# Altium schematic symbol library Conn_Molex_0482580002_eec.SchLib: 1 symbol
Pins are listed as number, name and electrical type; pins without a type are passive.

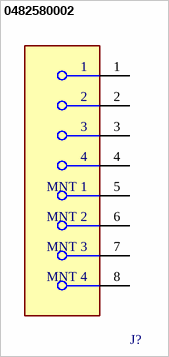
[diagram p0: symbol 0482580002]

## 0482580002
designator J?  (value not drawn)
pins: 1, 2, 3, 4, 5 MNT 1, 6 MNT 2, 7 MNT 3, 8 MNT 4